# Altium schematic symbol library TEP_243-Altium_RLC-Lib.SCHLIB: 11 symbols
Pins are listed as number, name and electrical type; pins without a type are passive.

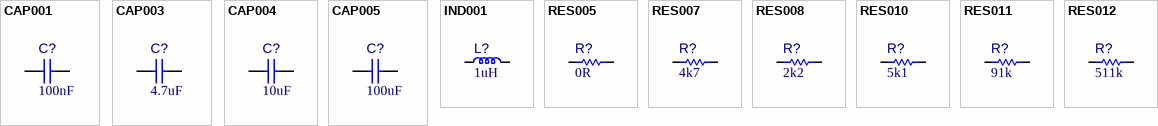
[diagram p0: symbols CAP001 to RES012]

## CAP001
designator C?, comment value 100nF  (hidden comment: Cap 100nF 0402)
Capacitor type 1; Manufacturer 1: Taiyo Yuden; Manufacturer Part Number 1: UMK105B7104KV-FR; LibRef: CAP001; CEGEP: KCOND01SM; Tolerance: 10%; Rated Voltage: 50V; Dielectric: X7R; Mount: SMT; Supplier 1: LCSC; Supplier Part Number 1: C2167491
footprint C_1005[0402]
pins: 1, 2

## CAP003
designator C?, comment value 4.7uF  (hidden comment: Cap 4.7uF 0805)
Capacitor type 1; Manufacturer 1: Taiyo Yuden; Manufacturer Part Number 1: TMK212AB7475KG-T; LibRef: CAP003; CEGEP: KCOND02SM; Tolerance: 10%; Rated Voltage: 25V; Dielectric: X7R; Mount: SMT; Supplier 1: LCSC; Supplier Part Number 1: C163186
footprint C_2012[0805]
pins: 1, 2

## CAP004
designator C?, comment value 10uF  (hidden comment: Cap 10uF 0805)
Capacitor type 1; Manufacturer 1: Samsung; Manufacturer Part Number 1: CL21A106KAYNNNE; LibRef: CAP004; CEGEP: KCOND03SM; Tolerance: 10%; Rated Voltage: 25V; Dielectric: X5R; Mount: SMT; Supplier 1: LCSC; Supplier Part Number 1: C15850
footprint C_2012[0805]
pins: 1, 2

## CAP005
designator C?, comment value 100uF  (hidden comment: Cap 100uF 1206)
Capacitor type 1; Manufacturer 1: Murata; Manufacturer Part Number 1: GRM31CR61A107MEA8L; LibRef: CAP005; CEGEP: KCOND04SM; Tolerance: 20%; Rated Voltage: 10V; Dielectric: X5R; Mount: SMT; Supplier 1: LCSC; Supplier Part Number 1: C883598
footprint C_3216[1206]
pins: 1, 2

## IND001
designator L?, comment value 1uH  (hidden comment: Ind 1UH 2.75A 51mOHM SMD)
Inductor type 1; Manufacturer 1: Murata Electronics; Manufacturer Part Number 1: LQH3NPN1R0MMEL; LibRef: IND001; CEGEP: KPTSO09; Tolerance: 0,2; DCR: 0.025R; Saturation Current: 2.3A; Mount: SMT; Supplier 1: LCSC; Supplier Part Number 1: C703777
footprint L_3030[1212]
pins: 1, 2

## RES005
designator R?, comment value 0R  (hidden comment: Res 0R 0402)
Resistor type 1; Manufacturer 1: Yageo; Manufacturer Part Number 1: RC0402JR-070RL; LibRef: RES005; Max Working Voltage: 50V; Mounting Technology: SMT; Supplier 1: LCSC; Supplier Part Number 1: C60485
footprint R_1005[0402]
pins: 1, 2

## RES007
designator R?, comment value 4k7  (hidden comment: Res 4k7 1% 0402)
Resistor type 1; Manufacturer 1: Panasonic; Manufacturer Part Number 1: ERJ-2RKF4701X; LibRef: RES007; Puissance: 1/16W; Max Working Voltage: 50V; Tolerance: 1%; Mount: SMT; Supplier 1: LCSC; Supplier Part Number 1: C400631
footprint R_1005[0402]
pins: 1, 2

## RES008
designator R?, comment value 2k2  (hidden comment: Res 2k2 1% 0402)
Resistor type 1; Manufacturer 1: Yageo; Manufacturer Part Number 1: RC0402FR-072K2L; LibRef: RES008; Puissance: 1/16W; Max Working Voltage: 50V; Tolerance: 1%; Mount: SMT; Supplier 1: LCSC; Supplier Part Number 1: C114762; Supplier 2: Digi-Key; Supplier Part Number 2: 311-2.20KLRCT-ND
footprint R_1005[0402]
pins: 1, 2

## RES010
designator R?, comment value 5k1  (hidden comment: Res 5k1 1% 0402)
Resistor type 1; Manufacturer 1: Panasonic; Manufacturer Part Number 1: ERJ-2RKF5101X; LibRef: RES010; Puissance: 1/16W; Max Working Voltage: 50V; Tolerance: 1%; Mount: SMT; Supplier 1: LCSC; Supplier Part Number 1: C25905
footprint R_1005[0402]
pins: 1, 2

## RES011
designator R?, comment value 91k  (hidden comment: Res 91k 1% 0402)
Resistor type 1; Manufacturer 1: Panasonic; Manufacturer Part Number 1: ERJ-2RKF9102X; LibRef: RES011; Puissance: 1/16W; Max Working Voltage: 50V; Tolerance: 1%; Mount: SMT; Supplier 1: LCSC; Supplier Part Number 1: C413106
footprint R_1005[0402]
pins: 1, 2

## RES012
designator R?, comment value 511k  (hidden comment: Res 511k 1% 0402)
Resistor type 1; Manufacturer 1: Panasonic; Manufacturer Part Number 1: ERJ-2RKF5113X; LibRef: RES012; Puissance: 1/16W; Max Working Voltage: 50V; Tolerance: 1%; Mounting Technology: SMT; Supplier 1: LCSC; Supplier Part Number 1: C441727
footprint R_1005[0402]
pins: 1, 2